# Altium schematic symbol library ADR03.SchLib: 1 symbol
Pins are listed as number, name and electrical type; pins without a type are passive.

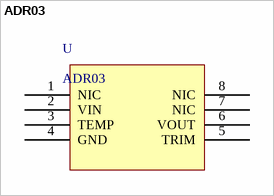
[diagram p0: symbol ADR03]

## ADR03
designator U
pins: 1 NIC, 2 VIN, 3 TEMP, 4 GND, 5 TRIM, 6 VOUT, 7 NIC, 8 NIC